# Altium integrated library WE-CBF.IntLib: 7 symbols
Pins are listed as number, name and electrical type; pins without a type are passive.

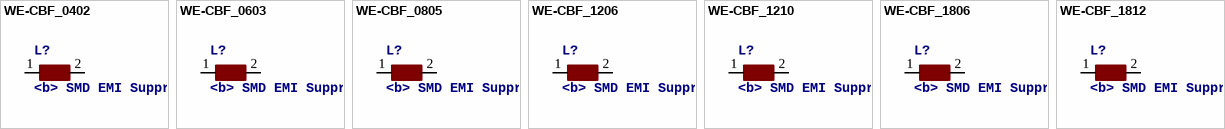
[diagram p0: symbols WE-CBF_0402 to WE-CBF_1812]

## WE-CBF_0402
designator L?, comment <b> SMD EMI Suppression Ferrite Beads WE-CBF</b> <p> / - Excellent anti-EMI properties <br> / - Low DC-restistance <br> / - Impedances till 3000 ohms <br> / - Rated current up to 6 A<p> / -- Reliable Ni-Sn electrodes<br> / -- Perfect as data lined filter and for uncoupling of distribution voltage<br>
MPN: 74279270; MPN: 742792701; MPN: 74279271; MPN: 742792711; MPN: 7427927115; MPN: 7427927121; MPN: 7427927141; MPN: 742792716; MPN: 7427927160; MPN: 7427927161; MPN: 74279272; MPN: 7427927281; MPN: 7427927291; MPN: 74279273; MPN: 742792731; MPN: 7427927310; MPN: 7427927311; MPN: 7427927370; MPN: 74279274; MPN: 74279276; MPN: 74279277; MPN: 74279278; MPN: 742792780; MPN: 74279279; MPN: 742792796; OC_FARNELL: 1635673; OC_NEWARK: 08P2450; PACKAGE: IND-0402; SUPPLIER: Wuerth Elektronik; OC_FARNELL: 1800338; OC_NEWARK: 78R5663; OC_FARNELL: 1635676; OC_NEWARK: 08P2451; OC_FARNELL: 2082505; OC_NEWARK: 88T6964; OC_FARNELL: 1961689; OC_NEWARK: 61T8025; OC_FARNELL: 1961691; OC_NEWARK: 61T8026; OC_FARNELL: 1961692; OC_NEWARK: 61T8027; OC_FARNELL: 2082541; OC_NEWARK: 88T6965; OC_FARNELL: 1961687; OC_NEWARK: 61T8028; OC_FARNELL: 1961693; OC_NEWARK: 61T8029; OC_FARNELL: 1635678; OC_NEWARK: 08P2452; OC_FARNELL: 1961695; OC_NEWARK: 61T8030; OC_FARNELL: 1961694; OC_NEWARK: 61T8031; OC_FARNELL: 1635672; OC_NEWARK: 08P2453; OC_FARNELL: 1961698; OC_NEWARK: 61T8032; OC_FARNELL: 1961696; OC_NEWARK: 61T8033; OC_FARNELL: 1961699; OC_NEWARK: 61T8034; OC_FARNELL: 1961697; OC_NEWARK: 61T8035; OC_FARNELL: 1800339; OC_NEWARK: 78R5664; OC_FARNELL: 1635674; OC_NEWARK: 08P2454; OC_FARNELL: 1635675; OC_NEWARK: 08P2455; OC_FARNELL: 1635677; OC_NEWARK: 08P2456; OC_FARNELL: 1800340; OC_NEWARK: 78R5665; OC_FARNELL: 1635679; OC_NEWARK: 08P2457; OC_FARNELL: 1800341; OC_NEWARK: 78R5666
footprint 0402
pins: 1, 2

## WE-CBF_0603
designator L?, comment <b> SMD EMI Suppression Ferrite Beads WE-CBF</b> <p> / - Excellent anti-EMI properties <br> / - Low DC-restistance <br> / - Impedances till 3000 ohms <br> / - Rated current up to 6 A<p> / -- Reliable Ni-Sn electrodes<br> / -- Perfect as data lined filter and for uncoupling of distribution voltage<br>
MPN: 74279260; MPN: 742792601; MPN: 742792602; MPN: 742792603; MPN: 742792604; MPN: 742792605; MPN: 742792606; MPN: 742792607; MPN: 742792608; MPN: 742792609; MPN: 74279261; MPN: 74279262; MPN: 742792620; MPN: 742792621; MPN: 742792622; MPN: 742792624; MPN: 74279263; MPN: 742792631; MPN: 74279264; MPN: 742792640; MPN: 742792641; MPN: 742792642; MPN: 742792643; MPN: 74279265; MPN: 742792651; MPN: 742792653; MPN: 742792656; MPN: 74279266; MPN: 742792663; MPN: 742792664; MPN: 74279267; MPN: 74279268; MPN: 74279269; MPN: 742792691; MPN: 742792692; MPN: 742792693; MPN: 742792695; OC_FARNELL: 1800343; OC_NEWARK: 78R5651; PACKAGE: IND-0603; SUPPLIER: Wuerth Elektronik; OC_FARNELL: 1800354; OC_NEWARK: 78R5652; OC_FARNELL: 1635704; OC_NEWARK: 08P2426; OC_FARNELL: 1635702; OC_NEWARK: 08P2427; OC_FARNELL: 1635701; OC_NEWARK: 08P2428; OC_FARNELL: 1800342; OC_NEWARK: 78R5653; OC_FARNELL: 1800345; OC_NEWARK: 76R7187; OC_FARNELL: 1800344; OC_NEWARK: 78R5654; OC_FARNELL: 1635681; OC_NEWARK: 08P2429; OC_FARNELL: 1635703; OC_NEWARK: 08P2430; OC_FARNELL: 1635684; OC_NEWARK: 08P2431; OC_FARNELL: 1635687; OC_NEWARK: 08P2432; OC_FARNELL: 1800350; OC_NEWARK: 78R5655; OC_FARNELL: 1800347; OC_NEWARK: 78R5656; OC_FARNELL: 1635688; OC_NEWARK: 08P2433; OC_FARNELL: 1800355; OC_NEWARK: 78R5657; OC_FARNELL: 1635689; OC_NEWARK: 08P2434; OC_FARNELL: 1800351; OC_NEWARK: 78R5658; OC_FARNELL: 1635685; OC_NEWARK: 08P2435; OC_FARNELL: 1800348; OC_NEWARK: 78R5659; OC_FARNELL: 1635705; OC_NEWARK: 08P2436; OC_FARNELL: 1635690; OC_NEWARK: 08P2437; OC_FARNELL: 1800349; OC_NEWARK: 78R5660; OC_FARNELL: 1635691; OC_NEWARK: 08P2438; OC_FARNELL: 1635706; OC_NEWARK: 08P2439; OC_FARNELL: 1635686; OC_NEWARK: 08P2440; OC_FARNELL: 1635692; OC_NEWARK: 08P2441; OC_FARNELL: 1635693; OC_NEWARK: 08P2442; OC_FARNELL: 1800352; OC_NEWARK: 78R5661; OC_FARNELL: 1800353; OC_NEWARK: 78R5662; OC_FARNELL: 1635683; OC_NEWARK: 08P2443; OC_FARNELL: 1635680; OC_NEWARK: 08P2444; OC_FARNELL: 1635695; OC_NEWARK: 08P2445; OC_FARNELL: 1635696; OC_NEWARK: 08P2446; OC_FARNELL: 1635697; OC_NEWARK: 08P2447; OC_FARNELL: 1635698; OC_NEWARK: 08P2448; OC_FARNELL: 1635699; OC_NEWARK: 08P2449
footprint 0603
pins: 1, 2

## WE-CBF_0805
designator L?, comment <b> SMD EMI Suppression Ferrite Beads WE-CBF</b> <p> / - Excellent anti-EMI properties <br> / - Low DC-restistance <br> / - Impedances till 3000 ohms <br> / - Rated current up to 6 A<p> / -- Reliable Ni-Sn electrodes<br> / -- Perfect as data lined filter and for uncoupling of distribution voltage<br>
MPN: 7427920; MPN: 742792005; MPN: 74279201; MPN: 742792011; MPN: 742792012; MPN: 74279202; MPN: 742792021; MPN: 742792022; MPN: 742792023; MPN: 74279203; MPN: 742792031; MPN: 742792032; MPN: 742792034; MPN: 742792035; MPN: 742792036; MPN: 742792037; MPN: 742792038; MPN: 74279204; MPN: 742792040; MPN: 742792041; MPN: 7427920415; MPN: 742792042; MPN: 742792043; MPN: 742792045; MPN: 74279205; MPN: 74279206; MPN: 742792062; MPN: 742792063; MPN: 742792064; MPN: 74279207; MPN: 74279208; MPN: 74279209; MPN: 742792090; MPN: 742792091; MPN: 742792092; MPN: 742792093; MPN: 742792094; MPN: 742792095; MPN: 742792096; MPN: 742792097; OC_FARNELL: 1635707; OC_NEWARK: 08P2358; PACKAGE: IND-0805; SUPPLIER: Wuerth Elektronik; OC_FARNELL: 1800356; OC_NEWARK: 78R5635; OC_FARNELL: 1635708; OC_NEWARK: 08P2359; OC_FARNELL: 1635727; OC_NEWARK: 08P2360; OC_FARNELL: 1800367; OC_NEWARK: 78R5636; OC_FARNELL: 1635711; OC_NEWARK: 08P2361; OC_FARNELL: 1635728; OC_NEWARK: 08P2362; OC_FARNELL: 1635733; OC_NEWARK: 08P2363; OC_FARNELL: 1635732; OC_NEWARK: 08P2364; OC_FARNELL: 1635713; OC_NEWARK: 08P2365; OC_FARNELL: 1635734; OC_NEWARK: 08P2366; OC_FARNELL: 1800362; OC_NEWARK: 78R5637; OC_FARNELL: 1635714; OC_NEWARK: 08P2367; OC_FARNELL: 1635715; OC_NEWARK: 08P2368; OC_FARNELL: 1635718; OC_NEWARK: 08P2369; OC_FARNELL: 1800368; OC_NEWARK: 78R5638; OC_FARNELL: 1800361; OC_NEWARK: 78R5639; OC_FARNELL: 1635719; OC_NEWARK: 08P2370; OC_FARNELL: 1635735; OC_NEWARK: 08P2371; OC_FARNELL: 1635720; OC_NEWARK: 08P2372; OC_FARNELL: 1800363; OC_NEWARK: 78R5640; OC_FARNELL: 1635716; OC_NEWARK: 08P2373; OC_FARNELL: 1635717; OC_NEWARK: 08P2374; OC_FARNELL: 1800357; OC_NEWARK: 78R5641; OC_FARNELL: 1635721; OC_NEWARK: 08P2375; OC_FARNELL: 1635729; OC_NEWARK: 08P2376; OC_FARNELL: 1800359; OC_NEWARK: 78R5642; OC_FARNELL: 1635730; OC_NEWARK: 08P2377; OC_FARNELL: 1635710; OC_NEWARK: 08P2378; OC_FARNELL: 1635731; OC_NEWARK: 08P2379; OC_FARNELL: 1635709; OC_NEWARK: 08P2380; OC_FARNELL: 1635722; OC_NEWARK: 08P2381; OC_FARNELL: 1635725; OC_NEWARK: 08P2382; OC_FARNELL: 1635723; OC_NEWARK: 08P2383; OC_FARNELL: 1800364; OC_NEWARK: 78R5643; OC_FARNELL: 1635726; OC_NEWARK: 08P2384; OC_FARNELL: 1800365; OC_NEWARK: 78R5644; OC_FARNELL: 1800366; OC_NEWARK: 78R5645; OC_FARNELL: 1635737; OC_NEWARK: 08P2385; OC_FARNELL: 1635738; OC_NEWARK: 08P2386
footprint 0805
pins: 1, 2

## WE-CBF_1206
designator L?, comment <b> SMD EMI Suppression Ferrite Beads WE-CBF</b> <p> / - Excellent anti-EMI properties <br> / - Low DC-restistance <br> / - Impedances till 3000 ohms <br> / - Rated current up to 6 A<p> / -- Reliable Ni-Sn electrodes<br> / -- Perfect as data lined filter and for uncoupling of distribution voltage<br>
MPN: 7427921; MPN: 74279211; MPN: 742792110; MPN: 742792111; MPN: 742792112; MPN: 742792113; MPN: 742792114; MPN: 742792116; MPN: 742792118; MPN: 74279212; MPN: 742792121; MPN: 742792122; MPN: 742792124; MPN: 74279213; MPN: 742792131; MPN: 742792133; MPN: 74279214; MPN: 742792141; MPN: 74279215; MPN: 742792151; MPN: 74279216; MPN: 74279218; MPN: 74279219; MPN: 7427922; OC_FARNELL: 1635739; OC_NEWARK: 08P2387; PACKAGE: IND-1206; SUPPLIER: Wuerth Elektronik; OC_FARNELL: 1635742; OC_NEWARK: 08P2388; OC_FARNELL: 1800372; OC_NEWARK: 78R5646; OC_FARNELL: 1635752; OC_NEWARK: 08P2389; OC_FARNELL: 1800373; OC_NEWARK: 78R5647; OC_FARNELL: 1635755; OC_NEWARK: 08P2390; OC_FARNELL: 1635753; OC_NEWARK: 08P2391; OC_FARNELL: 1635757; OC_NEWARK: 08P2392; OC_FARNELL: 1800374; OC_NEWARK: 78R5648; OC_FARNELL: 1635743; OC_NEWARK: 08P2393; OC_FARNELL: 1635756; OC_NEWARK: 08P2394; OC_FARNELL: 1635744; OC_NEWARK: 08P2395; OC_FARNELL: 1635745; OC_NEWARK: 08P2396; OC_FARNELL: 1635746; OC_NEWARK: 08P2397; OC_FARNELL: 1800369; OC_NEWARK: 78R5649; OC_FARNELL: 1800370; OC_NEWARK: 78R5650; OC_FARNELL: 1635749; OC_NEWARK: 08P2398; OC_FARNELL: 1635759; OC_NEWARK: 08P2399; OC_FARNELL: 1635754; OC_NEWARK: 08P2400; OC_FARNELL: 1635741; OC_NEWARK: 08P2401; OC_FARNELL: 1635751; OC_NEWARK: 08P2402; OC_FARNELL: 1635758; OC_NEWARK: 08P2403; OC_FARNELL: 1635747; OC_NEWARK: 08P2404; OC_FARNELL: 1635740; OC_NEWARK: 08P2405
footprint 1206
pins: 1, 2

## WE-CBF_1210
designator L?, comment <b> SMD EMI Suppression Ferrite Beads WE-CBF</b> <p> / - Excellent anti-EMI properties <br> / - Low DC-restistance <br> / - Impedances till 3000 ohms <br> / - Rated current up to 6 A<p> / -- Reliable Ni-Sn electrodes<br> / -- Perfect as data lined filter and for uncoupling of distribution voltage<br>
MPN: 7427923; MPN: 74279230; MPN: 74279231; MPN: 742792310; MPN: 742792311; MPN: 742792312; OC_FARNELL: 1635763; OC_NEWARK: 08P2406; PACKAGE: IND-1210; SUPPLIER: Wuerth Elektronik; OC_FARNELL: 1635760; OC_NEWARK: 08P2407; OC_FARNELL: 1635762; OC_NEWARK: 08P2408; OC_FARNELL: 1635764; OC_NEWARK: 08P2409; OC_FARNELL: 2082504; OC_NEWARK: 88T6963; OC_FARNELL: 1635765; OC_NEWARK: 08P2410
footprint 1210
pins: 1, 2

## WE-CBF_1806
designator L?, comment <b> SMD EMI Suppression Ferrite Beads WE-CBF</b> <p> / - Excellent anti-EMI properties <br> / - Low DC-restistance <br> / - Impedances till 3000 ohms <br> / - Rated current up to 6 A<p> / -- Reliable Ni-Sn electrodes<br> / -- Perfect as data lined filter and for uncoupling of distribution voltage<br>
MPN: 7427924; MPN: 74279241; MPN: 742792410; MPN: 742792411; MPN: 74279242; MPN: 74279243; MPN: 74279244; MPN: 74279245; OC_FARNELL: 1635766; OC_NEWARK: 08P2411; PACKAGE: IND-1806; SUPPLIER: Wuerth Elektronik; OC_FARNELL: 1635767; OC_NEWARK: unknown; OC_FARNELL: 1635769; OC_NEWARK: 08P2413; OC_FARNELL: 1635771; OC_NEWARK: 08P2414; OC_FARNELL: 1635768; OC_NEWARK: 08P2415; OC_FARNELL: 1635770; OC_NEWARK: 08P2416; OC_FARNELL: 1635774; OC_NEWARK: 08P2417; OC_FARNELL: 1635772; OC_NEWARK: 08P2418
footprint 1806
pins: 1, 2

## WE-CBF_1812
designator L?, comment <b> SMD EMI Suppression Ferrite Beads WE-CBF</b> <p> / - Excellent anti-EMI properties <br> / - Low DC-restistance <br> / - Impedances till 3000 ohms <br> / - Rated current up to 6 A<p> / -- Reliable Ni-Sn electrodes<br> / -- Perfect as data lined filter and for uncoupling of distribution voltage<br>
MPN: 7427925; MPN: 74279250; MPN: 742792510; MPN: 742792511; MPN: 742792514; MPN: 742792515; MPN: 74279252; OC_FARNELL: 1635775; OC_NEWARK: 08P2419; PACKAGE: IND-1812; SUPPLIER: Wuerth Elektronik; OC_FARNELL: 1635776; OC_NEWARK: 08P2420; OC_FARNELL: 1635777; OC_NEWARK: 08P2421; OC_FARNELL: 1635778; OC_NEWARK: 08P2422; OC_FARNELL: 1635780; OC_NEWARK: 08P2423; OC_FARNELL: 1635779; OC_NEWARK: 08P2424; OC_FARNELL: 1635781; OC_NEWARK: 08P2425
footprint 1812
pins: 1, 2